# Altium schematic symbol library SCH - RF - POWER DIVIDER - TTM PD2635L5050S2HF.SchLib: 1 symbol
Pins are listed as number, name and electrical type; pins without a type are passive.

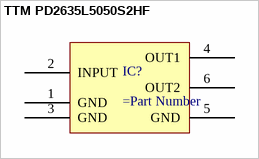
[diagram p0: symbol TTM PD2635L5050S2HF]

## TTM PD2635L5050S2HF
designator IC?
pins: 1 GND, 2 INPUT, 3 GND, 4 OUT1, 5 GND, 6 OUT2